# EAGLE library part DIN7 (library 326298_rev_a)
Female CONNECTOR 7 pins with shield, horizontal (DIN 45329)
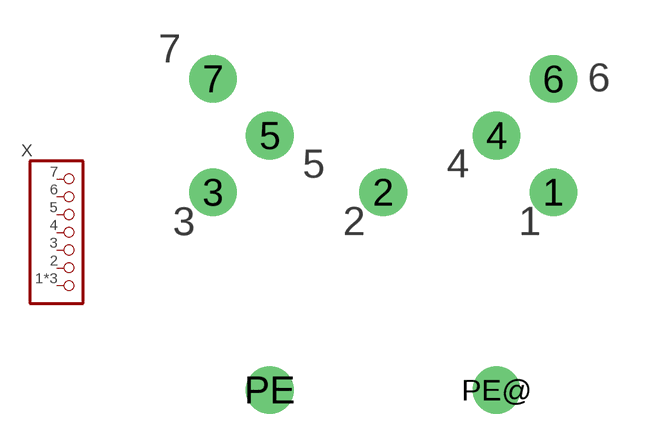
[diagram p30: symbol with the pads of DIN7; footprint DIN7]

Designator prefix X

## DIN7  [DIN7]
1  1  pas
2  2  pas
3  3  pas
4  4  pas
5  5  pas
6  6  pas
7  7  pas
PE  1  pas
PE@  1  pas

## Footprint DIN7 (pad centres in mm)
Female CONNECTOR 7 pins with shield, horizontal (DIN 45329)
drill 1.4: 1 7.5,-1.27; 2 0,-1.27; 3 -7.5,-1.27; 4 5,1.23; 5 -5,1.23; 6 7.5,3.73; 7 -7.5,3.73; PE -5,-10; PE@ 5,-10